# Altium integrated library Linear Technology Power Management uModule Regulators.IntLib: 166 symbols (part 51 of 67)
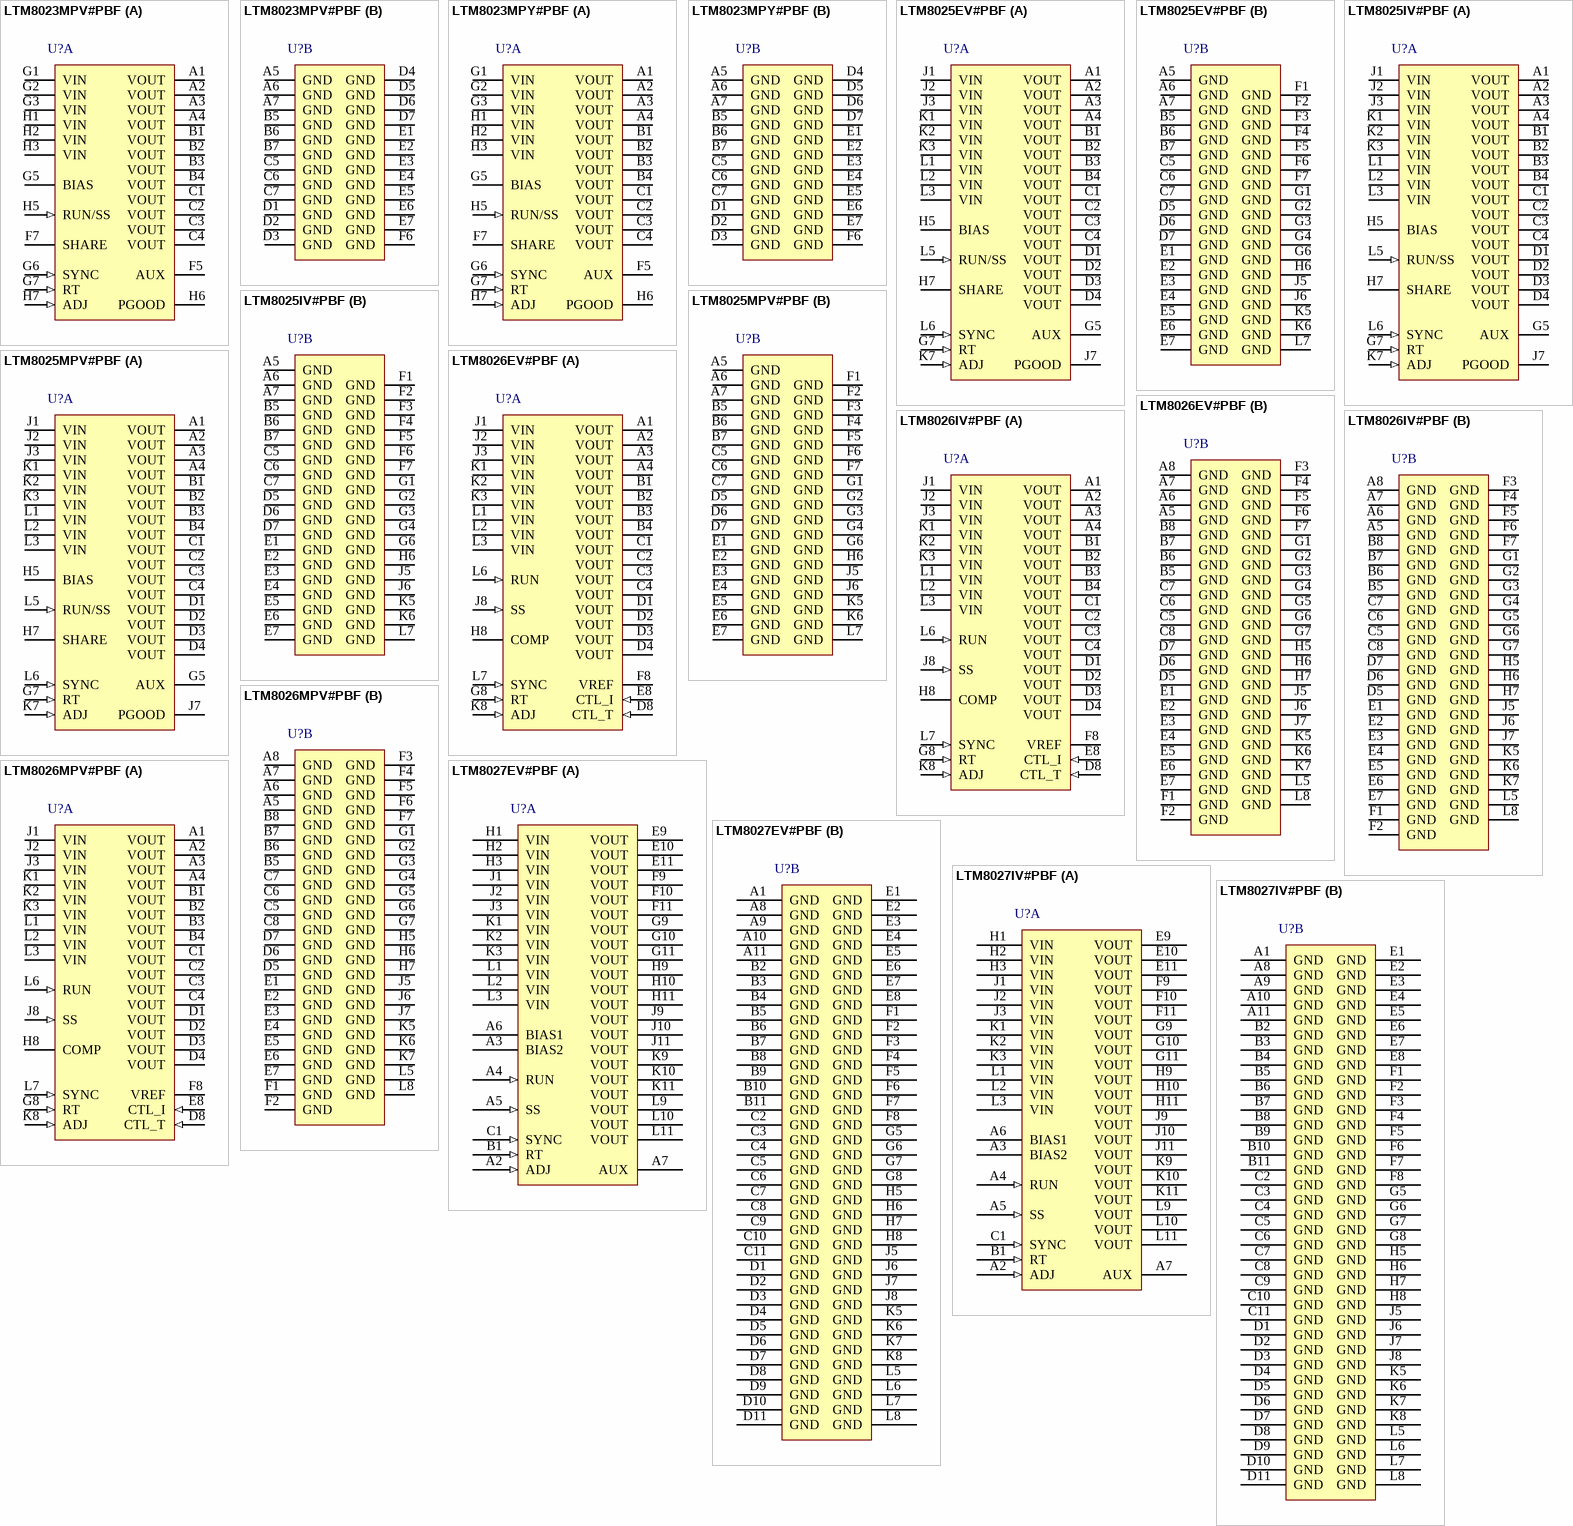
[diagram p77: symbols LTM8023MPV#PBF to LTM8027IV#PBF]

## LTM8025EV#PBF
designator U?
36 V, 3 A Step-Down uModule Regulator, 70-pin LGA, -40 to 125 degC, Pb-Free, Tray; Manufacturer: Linear Technology; PartNumber: LTM8025EV#PBF; Extended Temp: E, I, MP; Frequency Adjust Range: 200kHz - 2.4MHz; Frequency Sync Range: 250kHz - 2MHz; Frequency(kHz): 2400; Ishutdown(uA): 0.01; Isupply(mA): 0.025; Number of Outputs: 1; Output Current(A): 3; Switch Current(A): 5; Synchronous: no; Topology: Buck; Vin Max(V): 36; Vin Min(V): 3.6; Vout Max(V): 24; Vout Min(V): 0.8; DatasheetVersion: Rev. A; PackageVersion: Rev. A, 02/2013; PackageReference: LGA-70; PackageDescription: 70-Pin LGA, Body 15 x 9 mm, Pitch 1.27 mm; Supplier 1: Digi-Key; Supplier Part Number 1: LTM8025EV#PBF-ND; Supplier 2: Farnell; Supplier Part Number 2: 2115893; Supplier 3: Newark; Supplier Part Number 3: 68R7660; Packing: Tray; RoHS: TRUE; Tracking: no; Mounting Technology: Surface Mount; Code_JEDEC: MO-222; ComponentLink1Description: Manufacturer URL; ComponentLink1URL: http://www.linear.com/; ComponentLink2Description: Datasheet; ComponentLink2URL: http://cds.linear.com/docs/en/datasheet/8025fa.pdf; ComponentLink3Description: Package Specification; ComponentLink3URL: http://cds.linear.com/docs/en/packaging/05081817_A_lga70.pdf
footprint LT-LGA-70-05-08-1817_V (LGA, 70-Leads, Body 15x9mm, Pitch 1.27mm)
part A pins: A1 VOUT (power) "Power Output Pins. Apply the output fi lter capacitor and the output load between these pins and GND pins.", A2 VOUT (power) "Power Output Pins. Apply the output fi lter capacitor and the output load between these pins and GND pins.", A3 VOUT (power) "Power Output Pins. Apply the output fi lter capacitor and the output load between these pins and GND pins.", A4 VOUT (power) "Power Output Pins. Apply the output fi lter capacitor and the output load between these pins and GND pins.", B1 VOUT (power) "Power Output Pins. Apply the output fi lter capacitor and the output load between these pins and GND pins.", B2 VOUT (power) "Power Output Pins. Apply the output fi lter capacitor and the output load between these pins and GND pins.", B3 VOUT (power) "Power Output Pins. Apply the output fi lter capacitor and the output load between these pins and GND pins.", B4 VOUT (power) "Power Output Pins. Apply the output fi lter capacitor and the output load between these pins and GND pins.", C1 VOUT (power) "Power Output Pins. Apply the output fi lter capacitor and the output load between these pins and GND pins.", C2 VOUT (power) "Power Output Pins. Apply the output fi lter capacitor and the output load between these pins and GND pins.", C3 VOUT (power) "Power Output Pins. Apply the output fi lter capacitor and the output load between these pins and GND pins.", C4 VOUT (power) "Power Output Pins. Apply the output fi lter capacitor and the output load between these pins and GND pins.", D1 VOUT (power) "Power Output Pins. Apply the output fi lter capacitor and the output load between these pins and GND pins.", D2 VOUT (power) "Power Output Pins. Apply the output fi lter capacitor and the output load between these pins and GND pins.", D3 VOUT (power) "Power Output Pins. Apply the output fi lter capacitor and the output load between these pins and GND pins.", D4 VOUT (power) "Power Output Pins. Apply the output fi lter capacitor and the output load between these pins and GND pins.", G5 AUX (power) "Low Current Voltage Source for BIAS. In many designs, the BIAS pin is simply connected to VOUT. The AUX pin is internally connected to VOUT and is placed adjacent to the BIAS pin to ease printed circuit board routing. (See Datasheet)", G7 RT (in) "The RT pin is used to program the switching frequency of the LTM8025 by connecting a resistor from this pin to ground. Table 2 gives the resistor values that correspond to the resultant switching frequency. Minimize the (See Datasheet)", H5 BIAS (power) "The BIAS pin connects to the internal power bus. Connect to a power source greater than 2.8V and less than 25V. If the output is greater than 2.8V, connect this pin there. If the output voltage is less, connect this to a (See Datasheet)", H7 SHARE "Tie this to the SHARE pin of another LTM8025 when paralleling the outputs. Otherwise, do not connect.", J1 VIN (power) "The VIN pin supplies current to the LTM8025’s internal regulator and to the internal power switch. This pin must be locally bypassed with an external, low ESR capacitor; see Table 1 for recommended values.", J2 VIN (power) "The VIN pin supplies current to the LTM8025’s internal regulator and to the internal power switch. This pin must be locally bypassed with an external, low ESR capacitor; see Table 1 for recommended values.", J3 VIN (power) "The VIN pin supplies current to the LTM8025’s internal regulator and to the internal power switch. This pin must be locally bypassed with an external, low ESR capacitor; see Table 1 for recommended values.", J7 PGOOD (oc) "The PGOOD pin is the open-collector output of an internal comparator. PGOOD remains low until the ADJ pin is within 10% of the fi nal regulation voltage. PGOOD output is valid when VIN is above 3.6V and RUN/SS is high. If (See Datasheet)", K1 VIN (power) "The VIN pin supplies current to the LTM8025’s internal regulator and to the internal power switch. This pin must be locally bypassed with an external, low ESR capacitor; see Table 1 for recommended values.", K2 VIN (power) "The VIN pin supplies current to the LTM8025’s internal regulator and to the internal power switch. This pin must be locally bypassed with an external, low ESR capacitor; see Table 1 for recommended values.", K3 VIN (power) "The VIN pin supplies current to the LTM8025’s internal regulator and to the internal power switch. This pin must be locally bypassed with an external, low ESR capacitor; see Table 1 for recommended values.", K7 ADJ (in) "The LTM8025 regulates its ADJ pin to 0.79V. Connect the adjust resistor from this pin to ground. The value of RADJ is given by the equation RADJ = 394.21/(VOUT- 0.79), where RADJ is in kohm.", L1 VIN (power) "The VIN pin supplies current to the LTM8025’s internal regulator and to the internal power switch. This pin must be locally bypassed with an external, low ESR capacitor; see Table 1 for recommended values.", L2 VIN (power) "The VIN pin supplies current to the LTM8025’s internal regulator and to the internal power switch. This pin must be locally bypassed with an external, low ESR capacitor; see Table 1 for recommended values.", L3 VIN (power) "The VIN pin supplies current to the LTM8025’s internal regulator and to the internal power switch. This pin must be locally bypassed with an external, low ESR capacitor; see Table 1 for recommended values.", L5 RUN/SS (in) "Pull the RUN/SS pin below 0.2V to shut down the LTM8025. Tie to 2.5V or more for normal operation. If the shutdown feature is not used, tie this pin to the VIN pin. RUN/SS also provides a soft-start function; see the (See Datasheet)", L6 SYNC (in) "This is the external clock synchronization input. Ground this pin for low ripple Burst Mode operation at low output loads. Tie to a stable voltage source greater than 0.7V to disable Burst Mode operation. Do not leave this (See Datasheet)"
part B pins: A5 GND (power) "Tie these GND pins to a local ground plane below the LTM8025 and the circuit components. In most applications, the bulk of the heat fl ow out of the LTM8025 is through these pads, so the printed circuit design has a large (See Datasheet)", A6 GND (power) "Tie these GND pins to a local ground plane below the LTM8025 and the circuit components. In most applications, the bulk of the heat fl ow out of the LTM8025 is through these pads, so the printed circuit design has a large (See Datasheet)", A7 GND (power) "Tie these GND pins to a local ground plane below the LTM8025 and the circuit components. In most applications, the bulk of the heat fl ow out of the LTM8025 is through these pads, so the printed circuit design has a large (See Datasheet)", B5 GND (power) "Tie these GND pins to a local ground plane below the LTM8025 and the circuit components. In most applications, the bulk of the heat fl ow out of the LTM8025 is through these pads, so the printed circuit design has a large (See Datasheet)", B6 GND (power) "Tie these GND pins to a local ground plane below the LTM8025 and the circuit components. In most applications, the bulk of the heat fl ow out of the LTM8025 is through these pads, so the printed circuit design has a large (See Datasheet)", B7 GND (power) "Tie these GND pins to a local ground plane below the LTM8025 and the circuit components. In most applications, the bulk of the heat fl ow out of the LTM8025 is through these pads, so the printed circuit design has a large (See Datasheet)", C5 GND (power) "Tie these GND pins to a local ground plane below the LTM8025 and the circuit components. In most applications, the bulk of the heat fl ow out of the LTM8025 is through these pads, so the printed circuit design has a large (See Datasheet)", C6 GND (power) "Tie these GND pins to a local ground plane below the LTM8025 and the circuit components. In most applications, the bulk of the heat fl ow out of the LTM8025 is through these pads, so the printed circuit design has a large (See Datasheet)", C7 GND (power) "Tie these GND pins to a local ground plane below the LTM8025 and the circuit components. In most applications, the bulk of the heat fl ow out of the LTM8025 is through these pads, so the printed circuit design has a large (See Datasheet)", D5 GND (power) "Tie these GND pins to a local ground plane below the LTM8025 and the circuit components. In most applications, the bulk of the heat fl ow out of the LTM8025 is through these pads, so the printed circuit design has a large (See Datasheet)", D6 GND (power) "Tie these GND pins to a local ground plane below the LTM8025 and the circuit components. In most applications, the bulk of the heat fl ow out of the LTM8025 is through these pads, so the printed circuit design has a large (See Datasheet)", D7 GND (power) "Tie these GND pins to a local ground plane below the LTM8025 and the circuit components. In most applications, the bulk of the heat fl ow out of the LTM8025 is through these pads, so the printed circuit design has a large (See Datasheet)", E1 GND (power) "Tie these GND pins to a local ground plane below the LTM8025 and the circuit components. In most applications, the bulk of the heat fl ow out of the LTM8025 is through these pads, so the printed circuit design has a large (See Datasheet)", E2 GND (power) "Tie these GND pins to a local ground plane below the LTM8025 and the circuit components. In most applications, the bulk of the heat fl ow out of the LTM8025 is through these pads, so the printed circuit design has a large (See Datasheet)", E3 GND (power) "Tie these GND pins to a local ground plane below the LTM8025 and the circuit components. In most applications, the bulk of the heat fl ow out of the LTM8025 is through these pads, so the printed circuit design has a large (See Datasheet)", E4 GND (power) "Tie these GND pins to a local ground plane below the LTM8025 and the circuit components. In most applications, the bulk of the heat fl ow out of the LTM8025 is through these pads, so the printed circuit design has a large (See Datasheet)", E5 GND (power) "Tie these GND pins to a local ground plane below the LTM8025 and the circuit components. In most applications, the bulk of the heat fl ow out of the LTM8025 is through these pads, so the printed circuit design has a large (See Datasheet)", E6 GND (power) "Tie these GND pins to a local ground plane below the LTM8025 and the circuit components. In most applications, the bulk of the heat fl ow out of the LTM8025 is through these pads, so the printed circuit design has a large (See Datasheet)", E7 GND (power) "Tie these GND pins to a local ground plane below the LTM8025 and the circuit components. In most applications, the bulk of the heat fl ow out of the LTM8025 is through these pads, so the printed circuit design has a large (See Datasheet)", F1 GND (power) "Tie these GND pins to a local ground plane below the LTM8025 and the circuit components. In most applications, the bulk of the heat fl ow out of the LTM8025 is through these pads, so the printed circuit design has a large (See Datasheet)", F2 GND (power) "Tie these GND pins to a local ground plane below the LTM8025 and the circuit components. In most applications, the bulk of the heat fl ow out of the LTM8025 is through these pads, so the printed circuit design has a large (See Datasheet)", F3 GND (power) "Tie these GND pins to a local ground plane below the LTM8025 and the circuit components. In most applications, the bulk of the heat fl ow out of the LTM8025 is through these pads, so the printed circuit design has a large (See Datasheet)", F4 GND (power) "Tie these GND pins to a local ground plane below the LTM8025 and the circuit components. In most applications, the bulk of the heat fl ow out of the LTM8025 is through these pads, so the printed circuit design has a large (See Datasheet)", F5 GND (power) "Tie these GND pins to a local ground plane below the LTM8025 and the circuit components. In most applications, the bulk of the heat fl ow out of the LTM8025 is through these pads, so the printed circuit design has a large (See Datasheet)", F6 GND (power) "Tie these GND pins to a local ground plane below the LTM8025 and the circuit components. In most applications, the bulk of the heat fl ow out of the LTM8025 is through these pads, so the printed circuit design has a large (See Datasheet)", F7 GND (power) "Tie these GND pins to a local ground plane below the LTM8025 and the circuit components. In most applications, the bulk of the heat fl ow out of the LTM8025 is through these pads, so the printed circuit design has a large (See Datasheet)", G1 GND (power) "Tie these GND pins to a local ground plane below the LTM8025 and the circuit components. In most applications, the bulk of the heat fl ow out of the LTM8025 is through these pads, so the printed circuit design has a large (See Datasheet)", G2 GND (power) "Tie these GND pins to a local ground plane below the LTM8025 and the circuit components. In most applications, the bulk of the heat fl ow out of the LTM8025 is through these pads, so the printed circuit design has a large (See Datasheet)", G3 GND (power) "Tie these GND pins to a local ground plane below the LTM8025 and the circuit components. In most applications, the bulk of the heat fl ow out of the LTM8025 is through these pads, so the printed circuit design has a large (See Datasheet)", G4 GND (power) "Tie these GND pins to a local ground plane below the LTM8025 and the circuit components. In most applications, the bulk of the heat fl ow out of the LTM8025 is through these pads, so the printed circuit design has a large (See Datasheet)", G6 GND (power) "Tie these GND pins to a local ground plane below the LTM8025 and the circuit components. In most applications, the bulk of the heat fl ow out of the LTM8025 is through these pads, so the printed circuit design has a large (See Datasheet)", H6 GND (power) "Tie these GND pins to a local ground plane below the LTM8025 and the circuit components. In most applications, the bulk of the heat fl ow out of the LTM8025 is through these pads, so the printed circuit design has a large (See Datasheet)", J5 GND (power) "Tie these GND pins to a local ground plane below the LTM8025 and the circuit components. In most applications, the bulk of the heat fl ow out of the LTM8025 is through these pads, so the printed circuit design has a large (See Datasheet)", J6 GND (power) "Tie these GND pins to a local ground plane below the LTM8025 and the circuit components. In most applications, the bulk of the heat fl ow out of the LTM8025 is through these pads, so the printed circuit design has a large (See Datasheet)", K5 GND (power) "Tie these GND pins to a local ground plane below the LTM8025 and the circuit components. In most applications, the bulk of the heat fl ow out of the LTM8025 is through these pads, so the printed circuit design has a large (See Datasheet)", K6 GND (power) "Tie these GND pins to a local ground plane below the LTM8025 and the circuit components. In most applications, the bulk of the heat fl ow out of the LTM8025 is through these pads, so the printed circuit design has a large (See Datasheet)", L7 GND (power) "Tie these GND pins to a local ground plane below the LTM8025 and the circuit components. In most applications, the bulk of the heat fl ow out of the LTM8025 is through these pads, so the printed circuit design has a large (See Datasheet)"

## LTM8025IV#PBF
designator U?
36 V, 3 A Step-Down uModule Regulator, 70-pin LGA, -40 to 125 degC, Pb-Free, Tray; Manufacturer: Linear Technology; PartNumber: LTM8025IV#PBF; Extended Temp: E, I, MP; Frequency Adjust Range: 200kHz - 2.4MHz; Frequency Sync Range: 250kHz - 2MHz; Frequency(kHz): 2400; Ishutdown(uA): 0.01; Isupply(mA): 0.025; Number of Outputs: 1; Output Current(A): 3; Switch Current(A): 5; Synchronous: no; Topology: Buck; Vin Max(V): 36; Vin Min(V): 3.6; Vout Max(V): 24; Vout Min(V): 0.8; DatasheetVersion: Rev. A; PackageVersion: Rev. A, 02/2013; PackageReference: LGA-70; PackageDescription: 70-Pin LGA, Body 15 x 9 mm, Pitch 1.27 mm; Supplier 1: Digi-Key; Supplier Part Number 1: LTM8025IV#PBF-ND; Supplier 2: Farnell; Supplier Part Number 2: 1799828; Supplier 3: Newark; Supplier Part Number 3: 53R1244; Packing: Tray; RoHS: TRUE; Tracking: no; Mounting Technology: Surface Mount; Code_JEDEC: MO-222; ComponentLink1Description: Manufacturer URL; ComponentLink1URL: http://www.linear.com/; ComponentLink2Description: Datasheet; ComponentLink2URL: http://cds.linear.com/docs/en/datasheet/8025fa.pdf; ComponentLink3Description: Package Specification; ComponentLink3URL: http://cds.linear.com/docs/en/packaging/05081817_A_lga70.pdf
footprint LT-LGA-70-05-08-1817_V (LGA, 70-Leads, Body 15x9mm, Pitch 1.27mm)
part A pins: A1 VOUT (power) "Power Output Pins. Apply the output fi lter capacitor and the output load between these pins and GND pins.", A2 VOUT (power) "Power Output Pins. Apply the output fi lter capacitor and the output load between these pins and GND pins.", A3 VOUT (power) "Power Output Pins. Apply the output fi lter capacitor and the output load between these pins and GND pins.", A4 VOUT (power) "Power Output Pins. Apply the output fi lter capacitor and the output load between these pins and GND pins.", B1 VOUT (power) "Power Output Pins. Apply the output fi lter capacitor and the output load between these pins and GND pins.", B2 VOUT (power) "Power Output Pins. Apply the output fi lter capacitor and the output load between these pins and GND pins.", B3 VOUT (power) "Power Output Pins. Apply the output fi lter capacitor and the output load between these pins and GND pins.", B4 VOUT (power) "Power Output Pins. Apply the output fi lter capacitor and the output load between these pins and GND pins.", C1 VOUT (power) "Power Output Pins. Apply the output fi lter capacitor and the output load between these pins and GND pins.", C2 VOUT (power) "Power Output Pins. Apply the output fi lter capacitor and the output load between these pins and GND pins.", C3 VOUT (power) "Power Output Pins. Apply the output fi lter capacitor and the output load between these pins and GND pins.", C4 VOUT (power) "Power Output Pins. Apply the output fi lter capacitor and the output load between these pins and GND pins.", D1 VOUT (power) "Power Output Pins. Apply the output fi lter capacitor and the output load between these pins and GND pins.", D2 VOUT (power) "Power Output Pins. Apply the output fi lter capacitor and the output load between these pins and GND pins.", D3 VOUT (power) "Power Output Pins. Apply the output fi lter capacitor and the output load between these pins and GND pins.", D4 VOUT (power) "Power Output Pins. Apply the output fi lter capacitor and the output load between these pins and GND pins.", G5 AUX (power) "Low Current Voltage Source for BIAS. In many designs, the BIAS pin is simply connected to VOUT. The AUX pin is internally connected to VOUT and is placed adjacent to the BIAS pin to ease printed circuit board routing. (See Datasheet)", G7 RT (in) "The RT pin is used to program the switching frequency of the LTM8025 by connecting a resistor from this pin to ground. Table 2 gives the resistor values that correspond to the resultant switching frequency. Minimize the (See Datasheet)", H5 BIAS (power) "The BIAS pin connects to the internal power bus. Connect to a power source greater than 2.8V and less than 25V. If the output is greater than 2.8V, connect this pin there. If the output voltage is less, connect this to a (See Datasheet)", H7 SHARE "Tie this to the SHARE pin of another LTM8025 when paralleling the outputs. Otherwise, do not connect.", J1 VIN (power) "The VIN pin supplies current to the LTM8025’s internal regulator and to the internal power switch. This pin must be locally bypassed with an external, low ESR capacitor; see Table 1 for recommended values.", J2 VIN (power) "The VIN pin supplies current to the LTM8025’s internal regulator and to the internal power switch. This pin must be locally bypassed with an external, low ESR capacitor; see Table 1 for recommended values.", J3 VIN (power) "The VIN pin supplies current to the LTM8025’s internal regulator and to the internal power switch. This pin must be locally bypassed with an external, low ESR capacitor; see Table 1 for recommended values.", J7 PGOOD (oc) "The PGOOD pin is the open-collector output of an internal comparator. PGOOD remains low until the ADJ pin is within 10% of the fi nal regulation voltage. PGOOD output is valid when VIN is above 3.6V and RUN/SS is high. If (See Datasheet)", K1 VIN (power) "The VIN pin supplies current to the LTM8025’s internal regulator and to the internal power switch. This pin must be locally bypassed with an external, low ESR capacitor; see Table 1 for recommended values.", K2 VIN (power) "The VIN pin supplies current to the LTM8025’s internal regulator and to the internal power switch. This pin must be locally bypassed with an external, low ESR capacitor; see Table 1 for recommended values.", K3 VIN (power) "The VIN pin supplies current to the LTM8025’s internal regulator and to the internal power switch. This pin must be locally bypassed with an external, low ESR capacitor; see Table 1 for recommended values.", K7 ADJ (in) "The LTM8025 regulates its ADJ pin to 0.79V. Connect the adjust resistor from this pin to ground. The value of RADJ is given by the equation RADJ = 394.21/(VOUT- 0.79), where RADJ is in kohm.", L1 VIN (power) "The VIN pin supplies current to the LTM8025’s internal regulator and to the internal power switch. This pin must be locally bypassed with an external, low ESR capacitor; see Table 1 for recommended values.", L2 VIN (power) "The VIN pin supplies current to the LTM8025’s internal regulator and to the internal power switch. This pin must be locally bypassed with an external, low ESR capacitor; see Table 1 for recommended values.", L3 VIN (power) "The VIN pin supplies current to the LTM8025’s internal regulator and to the internal power switch. This pin must be locally bypassed with an external, low ESR capacitor; see Table 1 for recommended values.", L5 RUN/SS (in) "Pull the RUN/SS pin below 0.2V to shut down the LTM8025. Tie to 2.5V or more for normal operation. If the shutdown feature is not used, tie this pin to the VIN pin. RUN/SS also provides a soft-start function; see the (See Datasheet)", L6 SYNC (in) "This is the external clock synchronization input. Ground this pin for low ripple Burst Mode operation at low output loads. Tie to a stable voltage source greater than 0.7V to disable Burst Mode operation. Do not leave this (See Datasheet)"
part B pins: A5 GND (power) "Tie these GND pins to a local ground plane below the LTM8025 and the circuit components. In most applications, the bulk of the heat fl ow out of the LTM8025 is through these pads, so the printed circuit design has a large (See Datasheet)", A6 GND (power) "Tie these GND pins to a local ground plane below the LTM8025 and the circuit components. In most applications, the bulk of the heat fl ow out of the LTM8025 is through these pads, so the printed circuit design has a large (See Datasheet)", A7 GND (power) "Tie these GND pins to a local ground plane below the LTM8025 and the circuit components. In most applications, the bulk of the heat fl ow out of the LTM8025 is through these pads, so the printed circuit design has a large (See Datasheet)", B5 GND (power) "Tie these GND pins to a local ground plane below the LTM8025 and the circuit components. In most applications, the bulk of the heat fl ow out of the LTM8025 is through these pads, so the printed circuit design has a large (See Datasheet)", B6 GND (power) "Tie these GND pins to a local ground plane below the LTM8025 and the circuit components. In most applications, the bulk of the heat fl ow out of the LTM8025 is through these pads, so the printed circuit design has a large (See Datasheet)", B7 GND (power) "Tie these GND pins to a local ground plane below the LTM8025 and the circuit components. In most applications, the bulk of the heat fl ow out of the LTM8025 is through these pads, so the printed circuit design has a large (See Datasheet)", C5 GND (power) "Tie these GND pins to a local ground plane below the LTM8025 and the circuit components. In most applications, the bulk of the heat fl ow out of the LTM8025 is through these pads, so the printed circuit design has a large (See Datasheet)", C6 GND (power) "Tie these GND pins to a local ground plane below the LTM8025 and the circuit components. In most applications, the bulk of the heat fl ow out of the LTM8025 is through these pads, so the printed circuit design has a large (See Datasheet)", C7 GND (power) "Tie these GND pins to a local ground plane below the LTM8025 and the circuit components. In most applications, the bulk of the heat fl ow out of the LTM8025 is through these pads, so the printed circuit design has a large (See Datasheet)", D5 GND (power) "Tie these GND pins to a local ground plane below the LTM8025 and the circuit components. In most applications, the bulk of the heat fl ow out of the LTM8025 is through these pads, so the printed circuit design has a large (See Datasheet)", D6 GND (power) "Tie these GND pins to a local ground plane below the LTM8025 and the circuit components. In most applications, the bulk of the heat fl ow out of the LTM8025 is through these pads, so the printed circuit design has a large (See Datasheet)", D7 GND (power) "Tie these GND pins to a local ground plane below the LTM8025 and the circuit components. In most applications, the bulk of the heat fl ow out of the LTM8025 is through these pads, so the printed circuit design has a large (See Datasheet)", E1 GND (power) "Tie these GND pins to a local ground plane below the LTM8025 and the circuit components. In most applications, the bulk of the heat fl ow out of the LTM8025 is through these pads, so the printed circuit design has a large (See Datasheet)", E2 GND (power) "Tie these GND pins to a local ground plane below the LTM8025 and the circuit components. In most applications, the bulk of the heat fl ow out of the LTM8025 is through these pads, so the printed circuit design has a large (See Datasheet)", E3 GND (power) "Tie these GND pins to a local ground plane below the LTM8025 and the circuit components. In most applications, the bulk of the heat fl ow out of the LTM8025 is through these pads, so the printed circuit design has a large (See Datasheet)", E4 GND (power) "Tie these GND pins to a local ground plane below the LTM8025 and the circuit components. In most applications, the bulk of the heat fl ow out of the LTM8025 is through these pads, so the printed circuit design has a large (See Datasheet)", E5 GND (power) "Tie these GND pins to a local ground plane below the LTM8025 and the circuit components. In most applications, the bulk of the heat fl ow out of the LTM8025 is through these pads, so the printed circuit design has a large (See Datasheet)", E6 GND (power) "Tie these GND pins to a local ground plane below the LTM8025 and the circuit components. In most applications, the bulk of the heat fl ow out of the LTM8025 is through these pads, so the printed circuit design has a large (See Datasheet)", E7 GND (power) "Tie these GND pins to a local ground plane below the LTM8025 and the circuit components. In most applications, the bulk of the heat fl ow out of the LTM8025 is through these pads, so the printed circuit design has a large (See Datasheet)", F1 GND (power) "Tie these GND pins to a local ground plane below the LTM8025 and the circuit components. In most applications, the bulk of the heat fl ow out of the LTM8025 is through these pads, so the printed circuit design has a large (See Datasheet)", F2 GND (power) "Tie these GND pins to a local ground plane below the LTM8025 and the circuit components. In most applications, the bulk of the heat fl ow out of the LTM8025 is through these pads, so the printed circuit design has a large (See Datasheet)", F3 GND (power) "Tie these GND pins to a local ground plane below the LTM8025 and the circuit components. In most applications, the bulk of the heat fl ow out of the LTM8025 is through these pads, so the printed circuit design has a large (See Datasheet)", F4 GND (power) "Tie these GND pins to a local ground plane below the LTM8025 and the circuit components. In most applications, the bulk of the heat fl ow out of the LTM8025 is through these pads, so the printed circuit design has a large (See Datasheet)", F5 GND (power) "Tie these GND pins to a local ground plane below the LTM8025 and the circuit components. In most applications, the bulk of the heat fl ow out of the LTM8025 is through these pads, so the printed circuit design has a large (See Datasheet)", F6 GND (power) "Tie these GND pins to a local ground plane below the LTM8025 and the circuit components. In most applications, the bulk of the heat fl ow out of the LTM8025 is through these pads, so the printed circuit design has a large (See Datasheet)", F7 GND (power) "Tie these GND pins to a local ground plane below the LTM8025 and the circuit components. In most applications, the bulk of the heat fl ow out of the LTM8025 is through these pads, so the printed circuit design has a large (See Datasheet)", G1 GND (power) "Tie these GND pins to a local ground plane below the LTM8025 and the circuit components. In most applications, the bulk of the heat fl ow out of the LTM8025 is through these pads, so the printed circuit design has a large (See Datasheet)", G2 GND (power) "Tie these GND pins to a local ground plane below the LTM8025 and the circuit components. In most applications, the bulk of the heat fl ow out of the LTM8025 is through these pads, so the printed circuit design has a large (See Datasheet)", G3 GND (power) "Tie these GND pins to a local ground plane below the LTM8025 and the circuit components. In most applications, the bulk of the heat fl ow out of the LTM8025 is through these pads, so the printed circuit design has a large (See Datasheet)", G4 GND (power) "Tie these GND pins to a local ground plane below the LTM8025 and the circuit components. In most applications, the bulk of the heat fl ow out of the LTM8025 is through these pads, so the printed circuit design has a large (See Datasheet)", G6 GND (power) "Tie these GND pins to a local ground plane below the LTM8025 and the circuit components. In most applications, the bulk of the heat fl ow out of the LTM8025 is through these pads, so the printed circuit design has a large (See Datasheet)", H6 GND (power) "Tie these GND pins to a local ground plane below the LTM8025 and the circuit components. In most applications, the bulk of the heat fl ow out of the LTM8025 is through these pads, so the printed circuit design has a large (See Datasheet)", J5 GND (power) "Tie these GND pins to a local ground plane below the LTM8025 and the circuit components. In most applications, the bulk of the heat fl ow out of the LTM8025 is through these pads, so the printed circuit design has a large (See Datasheet)", J6 GND (power) "Tie these GND pins to a local ground plane below the LTM8025 and the circuit components. In most applications, the bulk of the heat fl ow out of the LTM8025 is through these pads, so the printed circuit design has a large (See Datasheet)", K5 GND (power) "Tie these GND pins to a local ground plane below the LTM8025 and the circuit components. In most applications, the bulk of the heat fl ow out of the LTM8025 is through these pads, so the printed circuit design has a large (See Datasheet)", K6 GND (power) "Tie these GND pins to a local ground plane below the LTM8025 and the circuit components. In most applications, the bulk of the heat fl ow out of the LTM8025 is through these pads, so the printed circuit design has a large (See Datasheet)", L7 GND (power) "Tie these GND pins to a local ground plane below the LTM8025 and the circuit components. In most applications, the bulk of the heat fl ow out of the LTM8025 is through these pads, so the printed circuit design has a large (See Datasheet)"